# EAGLE library part 22PINHEADER (library lib)
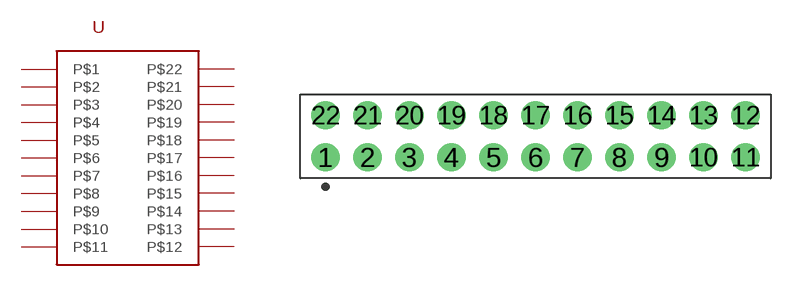
[diagram p2: symbol with the pads of HDRV22W64P254_2X11_2794X508X838B; footprint HDRV22W64P254_2X11_2794X508X838B]

Designator prefix U

## 22PINHEADER22PINHEADER (LINK: https://www.mouser.se/ProductDetail/Harwin/M20-9721146?qs=93uzuGORGqcafMOv5UPAWg%3D%3D; MOUSERNR: 855-M20-9721146; MPN: M20-9721146; SUPPLIER: Mouser)  [HDRV22W64P254_2X11_2794X508X838B]
1  P$1
2  P$2
3  P$3
4  P$4
5  P$5
6  P$6
7  P$7
8  P$8
9  P$9
10  P$10
11  P$11
12  P$12
13  P$13
14  P$14
15  P$15
16  P$16
17  P$17
18  P$18
19  P$19
20  P$20
21  P$21
22  P$22

## Footprint HDRV22W64P254_2X11_2794X508X838B (pad centres in mm)
Double-row, 22-pin Pin Header (Male) Straight, 2.54 mm (0.10 in) row pitch, 2.54 mm (0.10 in) col pitch, 5.84 mm mating length, 27.94 X 5.08 X 8.38 mm body Double-row (2X11), 22-pin Pin Header (Male) Straight package with 2.54 mm (0.10 in) row pitch, 2.54 mm (0.10 in) col pitch, 0.64 mm lead width, 3.00 mm tail length and 5.84 mm mating length with overall size 27.94 X 5.08 X 8.38 mm, pin pattern - counter-clockwise from bottom left
drill 1.105 pad 1.705: 1 -12.7,-1.27; 2 -10.16,-1.27; 3 -7.62,-1.27; 4 -5.08,-1.27; 5 -2.54,-1.27; 6 0,-1.27; 7 2.54,-1.27; 8 5.08,-1.27; 9 7.62,-1.27; 10 10.16,-1.27; 11 12.7,-1.27; 12 12.7,1.27; 13 10.16,1.27; 14 7.62,1.27; 15 5.08,1.27; 16 2.54,1.27; 17 0,1.27; 18 -2.54,1.27; 19 -5.08,1.27; 20 -7.62,1.27; 21 -10.16,1.27; 22 -12.7,1.27